# Altium footprint library DIODE SCHOTTKY 40V 1A SOD323.PcbLib: 1 footprints
Each footprint in its own frame and in the unit in brackets; x right, y up, seen from the top. Pads: shape width x height; smd on the part's side, far side on the other; paste and mask are expansions set on the pad; w line width, h text height; cw(c..) or ccw(c..) is an arc to the next point about the centre after c.
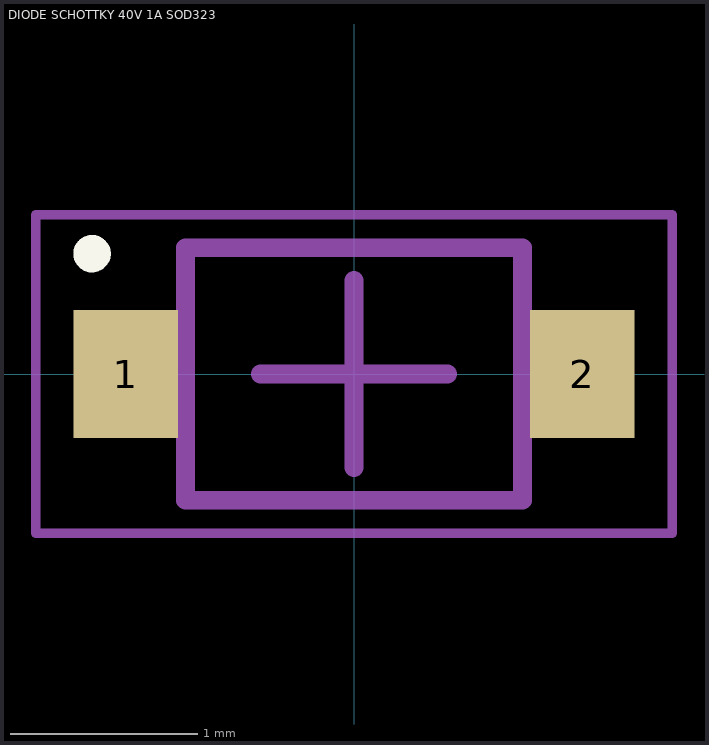
[diagram p0: the footprint, top view; thin cyan lines are the x and y axes]

## DIODE SCHOTTKY 40V 1A SOD323 [mil] "B5819WS-TPMSCT-ND"
height 45.28
pads (2):
  rect 22x27 smd: 1(-48.03,0) 2(48.03,0)
Top Overlay:
  circle w3.94: c-55.09,25.31 r1.97
Mechanical 13:
  lines w3.94: -35.43,-26.57 -35.43,26.57 35.43,26.57 35.43,-26.57 -35.43,-26.57
Mechanical 15:
  lines w1.97: -66.93,-33.46 -66.93,33.46 66.93,33.46 66.93,-33.46 -66.93,-33.46
  lines w3.94: -19.68,0 19.68,0 ; 0,-19.68 0,19.68
3D body: height 45.28, standoff 0, extent -35.43,-26.57 35.43,26.57